# Altium schematic symbol library tcc_sch_lib.SchLib: 8 symbols
Pins are listed as number, name and electrical type; pins without a type are passive.

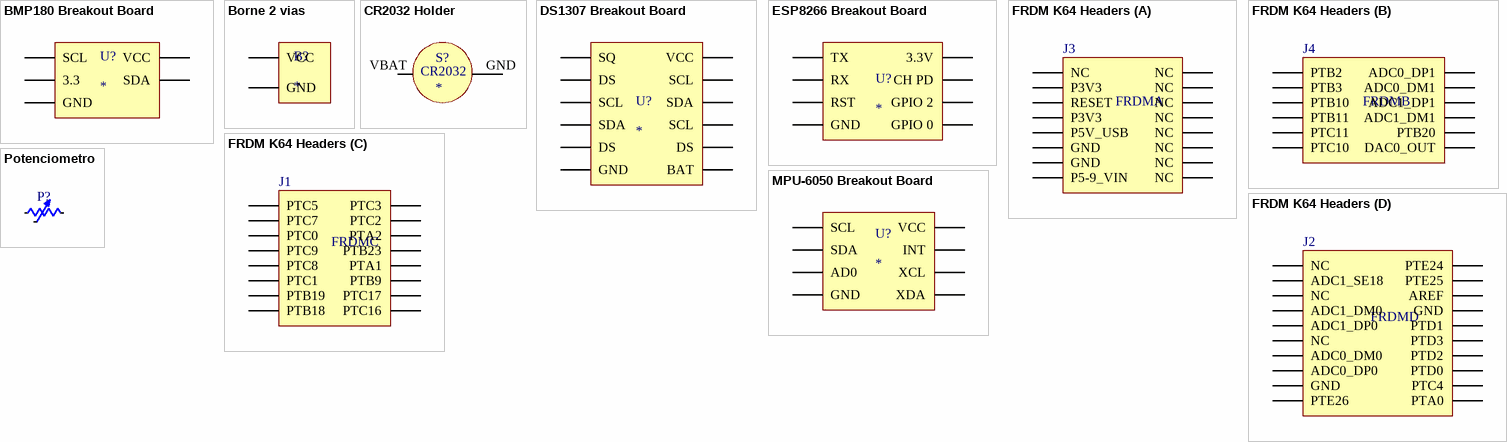
[diagram p0: symbols BMP180 Breakout Board to Potenciometro]

## BMP180 Breakout Board
designator U?
footprint BPM180 Breakout Board
pins: 3.3 (power), GND (power), SCL, SDA, VCC (power)

## Borne 2 vias
designator B?
footprint Borne 2 Vias
pins: GND (power), VCC (power)

## CR2032 Holder
designator S?
footprint CR2032 Holder
pins: GND (power), VBAT (power)
text: CR2032

## DS1307 Breakout Board
designator U?
pins: 1 SQ, 2 DS, 3 SCL, 4 SDA, 5 VCC, 6 GND, 7 BAT, 8 DS, 9 SCL, 10 SDA, 11 SCL, 12 DS

## ESP8266 Breakout Board
designator U?
footprint ESP2866 Break Board
pins: 3.3V (power), CH_PD CH PD, GND (power), GPIO0 GPIO 0, GPIO2 GPIO 2, RST, RX, TX

## FRDM K64 Headers
designator FRDM  (value not drawn)
footprint FRDM K64
part A pins: J3_1 NC, J3_2 NC, J3_3 NC, J3_4 P3V3 (power), J3_5 NC, J3_6 RESET, J3_7 NC, J3_8 P3V3 (power), J3_9 NC, J3_10 P5V_USB (power), J3_11 NC, J3_12 GND (power), J3_13 NC, J3_14 GND (power), J3_15 NC, J3_16 P5-9_VIN (power)
part B pins: J4_1 ADC0_DP1, J4_2 PTB2, J4_3 ADC0_DM1, J4_4 PTB3, J4_5 ADC1_DP1, J4_6 PTB10, J4_7 ADC1_DM1, J4_8 PTB11, J4_9 PTB20, J4_10 PTC11, J4_11 DAC0_OUT, J4_12 PTC10
part C pins: J1_1 PTB18, J1_2 PTC16, J1_3 PTB19, J1_4 PTC17, J1_5 PTC1, J1_6 PTB9, J1_7 PTC8, J1_8 PTA1, J1_9 PTC9, J1_10 PTB23, J1_11 PTC0, J1_12 PTA2, J1_13 PTC7, J1_14 PTC2, J1_15 PTC5, J1_16 PTC3
part D pins: J2_1 PTE26, J2_2 PTA0, J2_3 GND (power), J2_4 PTC4, J2_5 ADC0_DP0, J2_6 PTD0, J2_7 ADC0_DM0, J2_8 PTD2, J2_9 NC, J2_10 PTD3, J2_11 ADC1_DP0, J2_12 PTD1, J2_13 ADC1_DM0, J2_14 GND (power), J2_15 NC, J2_16 AREF, J2_17 ADC1_SE18, J2_18 PTE25, J2_19 NC, J2_20 PTE24
part A text: J3
part B text: J4
part C text: J1
part D text: J2

## MPU-6050 Breakout Board
designator U?
footprint MPU-6050 Breakout Board
pins: AD0, GND, INT, SCL, SDA, VCC, XCL, XDA

## Potenciometro
designator P?  (value not drawn)
footprint Potenciometro
pins: pot_1, pot_2, pot_3